# Altium schematic symbol library Levent_lib_commons.SchLib: 72 symbols
Pins are listed as number, name and electrical type; pins without a type are passive.

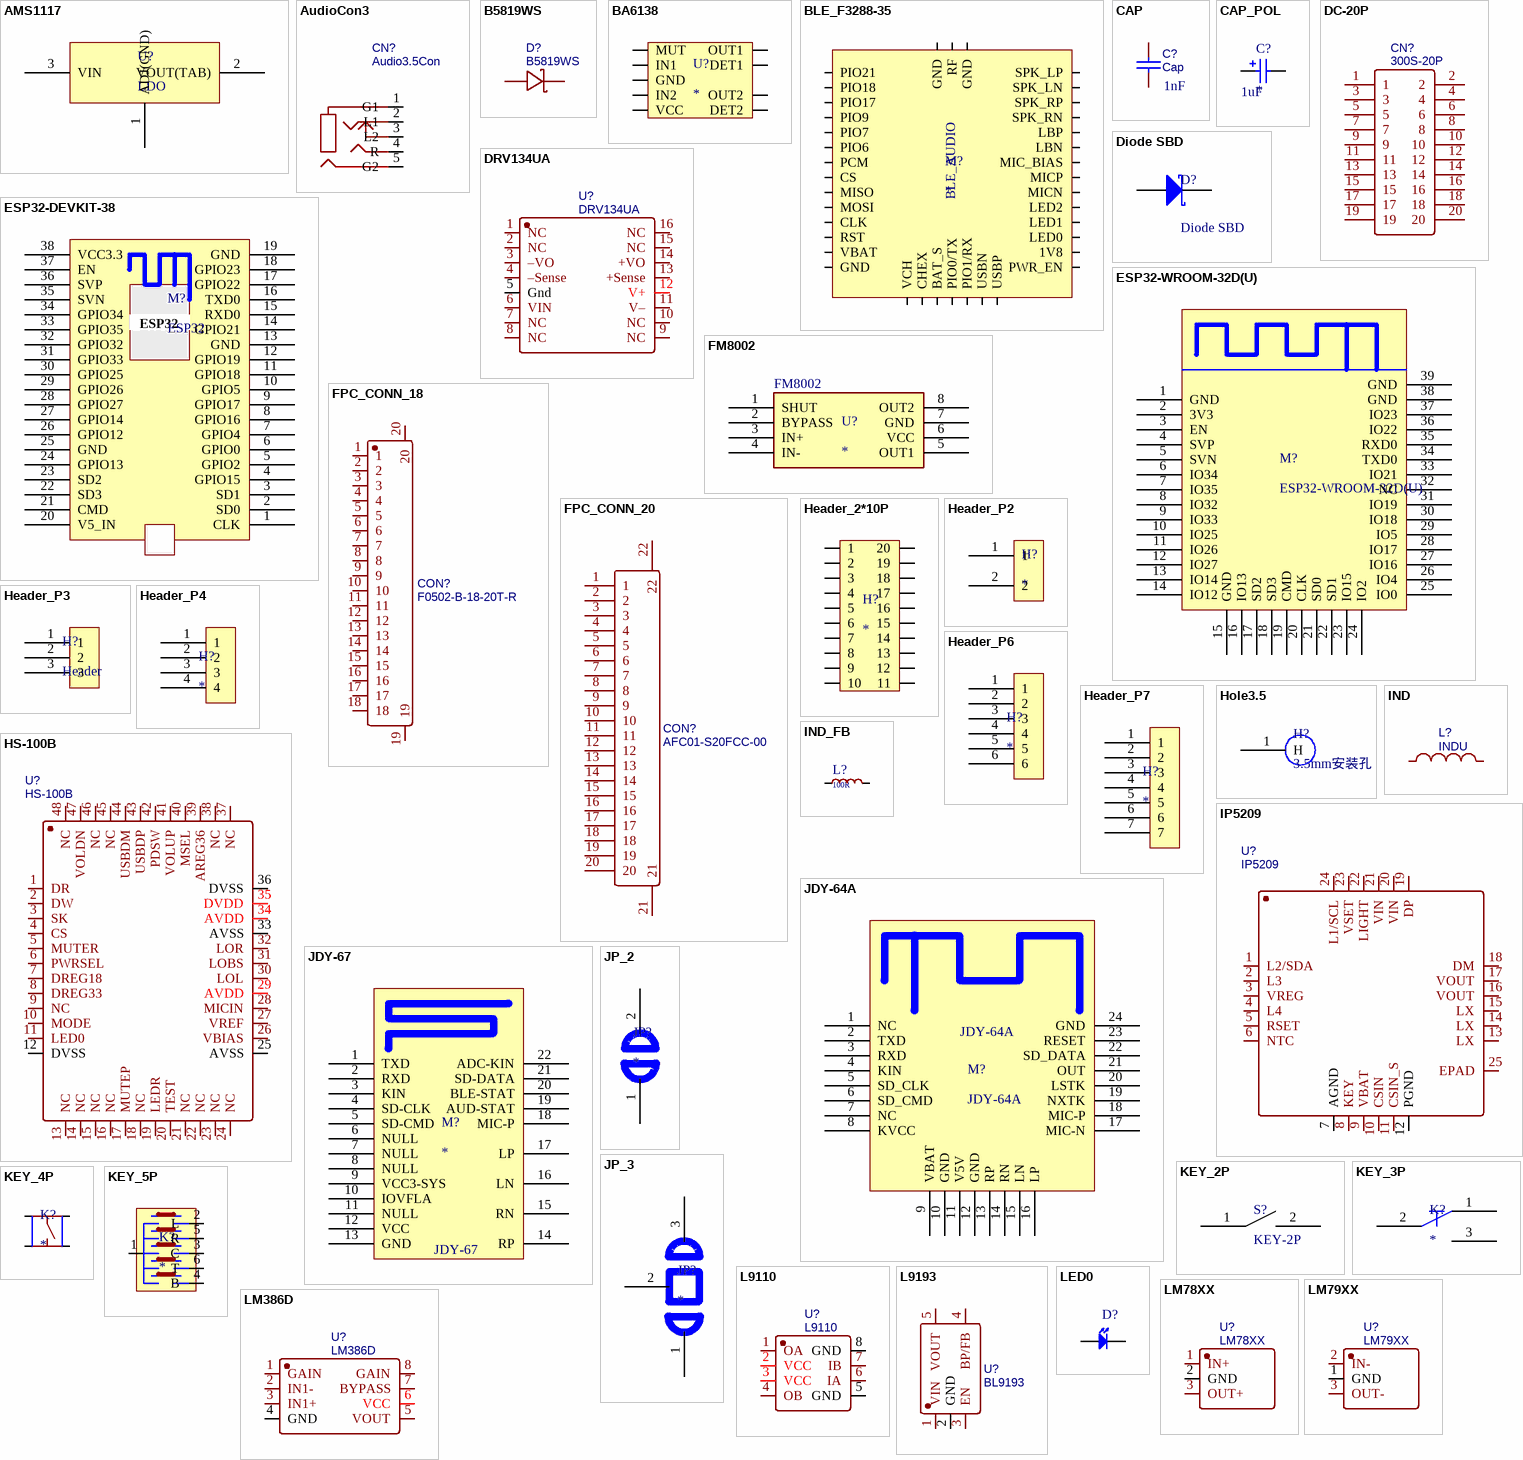
[diagram p0: symbols AMS1117 to LM386D]

## AMS1117
designator U?, comment LDO
footprint SOT-89
pins: 1 ADJ(GND), 2 VOUT(TAB), 3 VIN

## AudioCon3
designator CN?, comment Audio3.5Con
3.5mm 3Pin 音频接口; BOM_Manufacturer: G-Switch(品赞); BOM_Manufacturer Part: PJ-393; Contributor: LCSC; BOM_Supplier: LCSC; BOM_Supplier Part: C2837065; BOM_JLCPCB Part Class: Extended Part; spicePre: C; spiceSymbolName: PJ-393_C2837065
footprint Audio3.5_3Pin (3.5mm3Pin音频接口)
pins: 1 G1, 2 L1, 3 L2, 4 R, 5 G2

## B5819WS
designator D?
SBD; BOM_Manufacturer: Slkor(SLKORMICRO Elec.); Contributor: LCSC; BOM_Supplier: LCSC; BOM_Supplier Part: C488405; BOM_Manufacturer Part: B5819WS; spicePre: D; spiceSymbolName: B5819WS_C488405
footprint SOD-323
pins: 1 K, 2 A

## BA6138
designator U?
对数放大器
pins: 1 MUT, 2 OUT1, 3 DET1, 4 IN1, 5 GND, 6 IN2, 7 DET2, 8 OUT2, 9 VCC

## BLE_F3288-35
designator M?
蓝牙音频
pins: 1 PIO21, 2 PIO18, 3 PIO17, 4 PIO9, 5 PIO7, 6 PIO6, 7 PCM, 8 CS, 9 MISO, 10 MOSI, 11 CLK, 12 RST, 13 VBAT, 14 GND, 15 VCH, 16 CHEX, 17 BAT_S, 18 PIO0/TX, 19 PIO1/RX, 20 USBN, 21 USBP, 22 PWR_EN, 23 1V8, 24 LED0, 25 LED1, 26 LED2, 27 MICN, 28 MICP, 29 MIC_BIAS, 30 LBN, 31 LBP, 32 SPK_RN, 33 SPK_RP, 34 SPK_LN, 35 SPK_LP, 36 GND, 37 RF, 38 GND
text: BLE_AUDIO

## CAP
designator C?, comment Cap  value 1nF
BOM_Manufacturer: Huaxin S&T; BOM_Manufacturer Part: 0603B103K101CT; nameAlias: Capacitance; Contributor: LCSC; BOM_Supplier: LCSC; BOM_Supplier Part: C302008; spicePre: C; spiceSymbolName: 0603B103K101CT
footprint C0603
pins: 1, 2

## CAP_POL
designator C?  value 1uF
极性电容
footprint CAP_SMD_10mm (SMD电容,10mm)
pins: 1, 2

## DC-20P
designator CN?, comment 300S-20P
DC牛角座，20P; BOM_Manufacturer: Shenzhen Cankemeng; Contributor: LCSC; BOM_Supplier: LCSC; BOM_Supplier Part: C132442; BOM_Manufacturer Part: -; BOM_JLCPCB Part Class: Extended Part; spicePre: C; spiceSymbolName: 300S-20P
footprint CONN-TH_300S-20P
pins: 1, 2, 3, 4, 5, 6, 7, 8, 9, 10, 11, 12, 13, 14, 15, 16, 17, 18, 19, 20

## Diode SBD
designator D?
Schottky Rectifier; Note: Terminal 2 is the TAB and is electrically connected to the cathode; Published: 8-Jun-2000; LatestRevisionDate: 17-Jul-2002; LatestRevisionNote: Re-released for DXP Platform.; DatasheetVersion: PD-2.057B; PackageVersion: Feb-1998; PackageReference: TO-220AC; Publisher: Altium Limited; PackageDescription: TO, Thru-Hole, Vertical, Heatsink Mounted; 3 In-Line Leads (1 Absent); Pitch 2.54 mm; ComponentLink1Description: Manufacturer Link; ComponentLink1URL: http://www.irf.com/; ComponentLink2Description: Datasheet; ComponentLink2URL: http://www.irf.com/product-info/datasheets/data/10tq.pdf
simulation model 10TQ035 (DIODE)
footprint SMA_L4.3 (SMA_DIode)
pins: 1 K, 2 A

## DRV134UA
designator U?
音频差分放大器; BOM_Manufacturer: TI(德州仪器); Contributor: LCSC; BOM_Supplier: LCSC; BOM_Supplier Part: C1519988; BOM_Manufacturer Part: DRV134UA; BOM_JLCPCB Part Class: Extended Part; spicePre: U; spiceSymbolName: DRV134UA
footprint SOIC-16_L10.3-W7.5-P1.27-LS10.3-BL
pins: 1 NC, 2 NC, 3 –VO, 4 –Sense, 5 Gnd, 6 VIN, 7 NC, 8 NC, 9 NC, 10 NC, 11 V–, 12 V+, 13 +Sense, 14 +VO, 15 NC, 16 NC

## ESP32-DEVKIT-38
designator M?, comment ESP32
ESP32开发板，38引脚
pins: 1 CLK, 2 SD0, 3 SD1, 4 GPIO15, 5 GPIO2, 6 GPIO0, 7 GPIO4, 8 GPIO16, 9 GPIO17, 10 GPIO5, 11 GPIO18, 12 GPIO19, 13 GND, 14 GPIO21, 15 RXD0, 16 TXD0, 17 GPIO22, 18 GPIO23, 19 GND, 20 V5_IN, 21 CMD, 22 SD3, 23 SD2, 24 GPIO13, 25 GND, 26 GPIO12, 27 GPIO14, 28 GPIO27, 29 GPIO26, 30 GPIO25, 31 GPIO33, 32 GPIO32, 33 GPIO35, 34 GPIO34, 35 SVN, 36 SVP, 37 EN, 38 VCC3.3

## ESP32-WROOM-32D(U)
designator M?
footprint ESP32-WROOM-32D
pins: 1 GND, 2 3V3, 3 EN, 4 SVP, 5 SVN, 6 IO34, 7 IO35, 8 IO32, 9 IO33, 10 IO25, 11 IO26, 12 IO27, 13 IO14, 14 IO12, 15 GND, 16 IO13, 17 SD2, 18 SD3, 19 CMD, 20 CLK, 21 SD0, 22 SD1, 23 IO15, 24 IO2, 25 IO0, 26 IO4, 27 IO16, 28 IO17, 29 IO5, 30 IO18, 31 IO19, 32 NC, 33 IO21, 34 TXD0, 35 RXD0, 36 IO22, 37 IO23, 38 GND, 39 GND

## FM8002
designator U?
音频放大器
footprint SOP-8-PAD
pins: 1 SHUT, 2 BYPASS, 3 IN+, 4 IN-, 5 OUT1, 6 VCC, 7 GND, 8 OUT2

## FPC_CONN_18
designator CON?, comment F0502-B-18-20T-R
FPC连接器18Pin; BOM_Manufacturer: XFCN; Contributor: LCSC; BOM_Supplier: LCSC; BOM_Supplier Part: C512918; BOM_Manufacturer Part: F0502-B-18-20T-R; BOM_JLCPCB Part Class: Extended Part; spicePre: F; spiceSymbolName: F0502-B-18-20T-R
footprint FPC-SMD_18P-0.5 (0.5mmFPC连接器)
pins: 1, 2, 3, 4, 5, 6, 7, 8, 9, 10, 11, 12, 13, 14, 15, 16, 17, 18, 19, 20

## FPC_CONN_20
designator CON?, comment AFC01-S20FCC-00
FPC连接器20Pin; BOM_Manufacturer: JUSHUO; Contributor: LCSC; BOM_Supplier: LCSC; BOM_Supplier Part: C262274; BOM_Manufacturer Part: AFC01-S20FCC-00; BOM_JLCPCB Part Class: Extended Part; spicePre: F; spiceSymbolName: AFC01-S20FCC-00
footprint FPC-SMD_20P_0.5 (FPC连接器)
pins: 1, 2, 3, 4, 5, 6, 7, 8, 9, 10, 11, 12, 13, 14, 15, 16, 17, 18, 19, 20, 21, 22

## Header_2*10P
designator H?
2*10P连接器
pins: 1, 2, 3, 4, 5, 6, 7, 8, 9, 10, 11, 12, 13, 14, 15, 16, 17, 18, 19, 20

## Header_P2
designator H?
2Pin排针
footprint H_1.27_P2
footprint H_5.08_P2
pins: 1, 2

## Header_P3
designator H?, comment Header
3Pin接口
footprint H_2.54_P3 (3Pin Header)
pins: 1, 2, 3

## Header_P4
designator H?
4Pin排针
footprint H_1.27_P4
pins: 1, 2, 3, 4

## Header_P6
designator H?
6Pin排针
footprint H_1.27_P6
pins: 1, 2, 3, 4, 5, 6

## Header_P7
designator H?
7Pin排针
pins: 1, 2, 3, 4, 5, 6, 7

## Hole3.5
designator H?, comment 3.5mm安装孔
安装孔
pins: 1 H

## HS-100B
designator U?
HS-100B USB Audio; BOM_Manufacturer: Cmedia; Contributor: LCSC; BOM_Supplier: LCSC; BOM_Supplier Part: C371351; BOM_Manufacturer Part: HS-100B; BOM_JLCPCB Part Class: Extended Part; spicePre: U; spiceSymbolName: HS-100B
footprint LQFP-48_L7.0-W7.0-P0.50-LS9.0-BL
pins: 1 DR, 2 DW, 3 SK, 4 CS, 5 MUTER, 6 PWRSEL, 7 DREG18, 8 DREG33, 9 NC, 10 MODE, 11 LED0, 12 DVSS, 13 NC, 14 NC, 15 NC, 16 NC, 17 MUTEP, 18 NC, 19 LEDR, 20 TEST, 21 NC, 22 NC, 23 NC, 24 NC, 25 AVSS, 26 VBIAS, 27 VREF, 28 MICIN, 29 AVDD, 30 LOL, 31 LOBS, 32 LOR, 33 AVSS, 34 AVDD, 35 DVDD, 36 DVSS, 37 NC, 38 NC, 39 AREG36, 40 MSEL, 41 VOLUP, 42 PDSW, 43 USBDP, 44 USBDM, 45 NC, 46 NC, 47 VOLDN, 48 NC

## IND
designator L?, comment INDU
电感; BOM_Manufacturer: Sunltech Tech; BOM_Manufacturer Part: SLO0630H150MTT; nameAlias: Inductance; Contributor: LCSC; BOM_Supplier: LCSC; BOM_Supplier Part: C182182; BOM_JLCPCB Part Class: Extended Part; spicePre: L; spiceSymbolName: SLO0630H150MTT; Value: *
footprint SMD_L7.1
pins: 1, 2

## IND_FB
designator L?, comment value 100R  (hidden comment: 电感磁珠)
footprint L0603 (磁珠0603)
pins: 1, 2

## IP5209
designator U?
USB充电宝; BOM_Manufacturer: INJOINIC; Contributor: LCSC; BOM_Supplier: LCSC; BOM_Supplier Part: C181695; BOM_Manufacturer Part: IP5209; BOM_JLCPCB Part Class: Extended Part; spicePre: U; spiceSymbolName: IP5209
footprint QFN-24
pins: 1 L2/SDA, 2 L3, 3 VREG, 4 L4, 5 RSET, 6 NTC, 7 AGND, 8 KEY, 9 VBAT, 10 CSIN, 11 CSIN_S, 12 PGND, 13 LX, 14 LX, 15 LX, 16 VOUT, 17 VOUT, 18 DM, 19 DP, 20 VIN, 21 VIN, 22 LIGHT, 23 VSET, 24 L1/SCL, 25 EPAD

## JDY-64A
designator M?
蓝牙音频
footprint JDY-64A (蓝牙音频)
pins: 1 NC, 2 TXD, 3 RXD, 4 KIN, 5 SD_CLK, 6 SD_CMD, 7 NC, 8 KVCC, 9 VBAT, 10 GND, 11 V5V, 12 GND, 13 RP, 14 RN, 15 LN, 16 LP, 17 MIC-N, 18 MIC-P, 19 NXTK, 20 LSTK, 21 OUT, 22 SD_DATA, 23 RESET, 24 GND

## JDY-67
designator M?
JDY-67
footprint JDY-67 (蓝牙音频模组)
pins: 1 TXD, 2 RXD, 3 KIN, 4 SD-CLK, 5 SD-CMD, 6 NULL, 7 NULL, 8 NULL, 9 VCC3-SYS, 10 IOVFLA, 11 NULL, 12 VCC, 13 GND, 14 RP, 15 RN, 16 LN, 17 LP, 18 MIC-P, 19 AUD-STAT, 20 BLE-STAT, 21 SD-DATA, 22 ADC-KIN

## JP_2
designator JP?
2Pin跳线焊盘
footprint JP_2Pin (2Pin跳线焊盘)
pins: 1, 2

## JP_3
designator JP?
3Pin跳线焊盘
footprint JP_3PIN (3Pin跳线焊盘)
pins: 1, 2, 3

## KEY_2P
designator S?, comment KEY-2P
KEY-2Pp
footprint KEY_SOT_P2
pins: 1, 2

## KEY_3P
designator K?
3Pin按键
pins: 1, 2, 3

## KEY_4P
designator K?
4Pin按键
pins: 1, 2, 3, 4

## KEY_5P
designator K?
五向开关
footprint KEY_5 (五向开关)
pins: 1 G, 2 L, 3 C, 4 B, 5 R, 6 T

## L9110
designator U?
L9110_HBridge; BOM_Manufacturer: Mixic; BOM_Manufacturer Part: L9110S; Contributor: LCSC; BOM_Supplier: LCSC; BOM_Supplier Part: C513306; BOM_JLCPCB Part Class: Extended Part; spicePre: U; spiceSymbolName: L9110S_C513306
footprint DIP-8
pins: 1 OA, 2 VCC, 3 VCC, 4 OB, 5 GND, 6 IA, 7 IB, 8 GND

## L9193
designator U?, comment BL9193
LDO9193; BOM_Manufacturer: Shanghai Belling; BOM_Manufacturer Part: BL9193-ADBAPRN; Contributor: LCSC; BOM_Paste Type: expand; BOM_Supplier: LCSC; BOM_Supplier Part: C216210; spicePre: U; spiceSymbolName: BL9193-ADBAPRN
footprint SOT-23-5
pins: 1 VIN, 2 GND, 3 EN, 4 BP/FB, 5 VOUT

## LED0
designator D?, comment LED  (value not drawn)
Published: 8-Jun-2000; LatestRevisionDate: 08-Jul-2005; LatestRevisionNote: Mech Layer 1 removed.; PackageReference: LED-0; Publisher: Altium Limited; PackageDescription: LED; 2 Leads
simulation model LED0 (Diode)
footprint LED0603
pins: 1 K, 2 A

## LM78XX
designator U?
三端稳压(正电压); BOM_Manufacturer: HGSEMI(华冠); BOM_Manufacturer Part: LM7812T; Contributor: LCSC; BOM_Supplier: LCSC; BOM_Supplier Part: C2902509; BOM_JLCPCB Part Class: Extended Part; spicePre: U; spiceSymbolName: LM7812T
footprint TO-220-3_2.54
pins: 1 IN+, 2 GND, 3 OUT+

## LM79XX
designator U?
三端稳压(负电压); BOM_Manufacturer: HGSEMI(华冠); BOM_Manufacturer Part: LM7812T; Contributor: LCSC; BOM_Supplier: LCSC; BOM_Supplier Part: C2902509; BOM_JLCPCB Part Class: Extended Part; spicePre: U; spiceSymbolName: LM7812T
footprint TO-220-3_2.54
pins: 1 GND, 2 IN-, 3 OUT-

## LM386D
designator U?
LM386; BOM_Manufacturer: HTC Korea TAEJIN Tech; Contributor: LCSC; BOM_Supplier: LCSC; BOM_Supplier Part: C510560; BOM_Manufacturer Part: LM386D; BOM_JLCPCB Part Class: Extended Part; spicePre: U; spiceSymbolName: LM386D
footprint SOP-8
pins: 1 GAIN, 2 IN1-, 3 IN1+, 4 GND, 5 VOUT, 6 VCC, 7 BYPASS, 8 GAIN

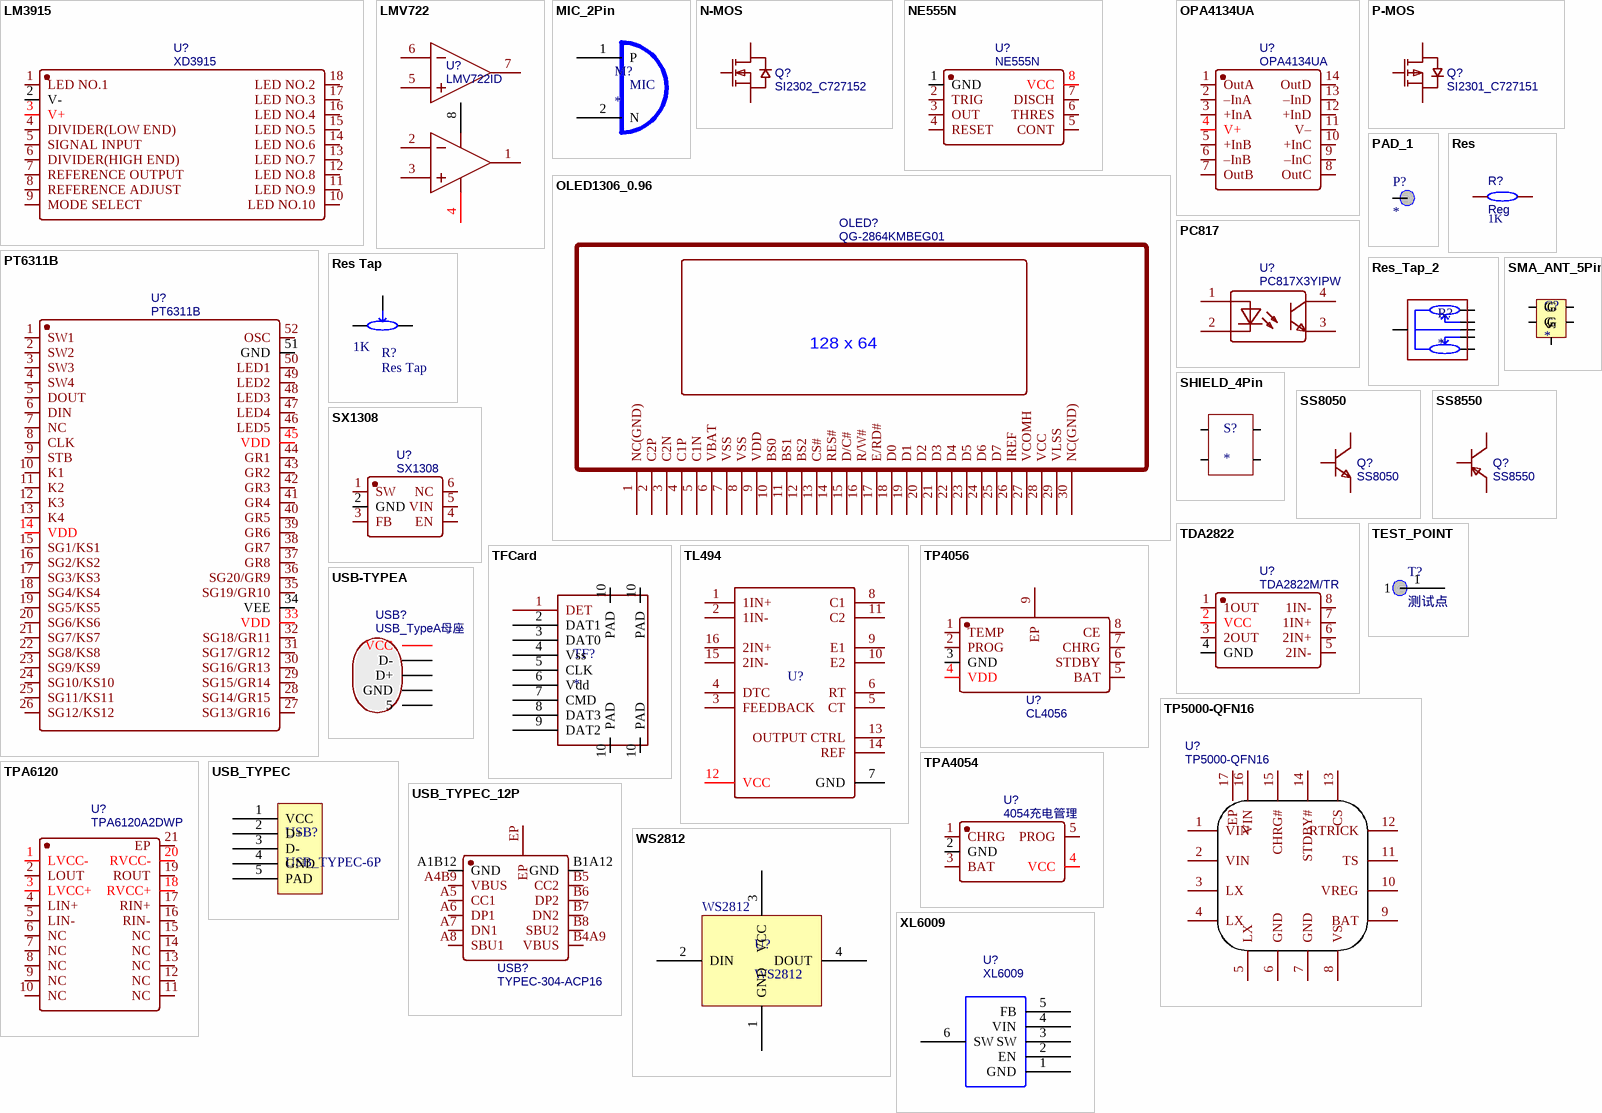
[diagram p1: symbols LM3915 to XL6009]

## LM3915
designator U?, comment XD3915
电平指示; BOM_Manufacturer: XINLUDA(信路达); Contributor: LCSC; BOM_Supplier: LCSC; BOM_Supplier Part: C609778; BOM_Manufacturer Part: XD3915; BOM_JLCPCB Part Class: Extended Part; Frequency: -; spicePre: U; spiceSymbolName: XD3915
footprint DIP-18
pins: 1 LED NO.1, 2 V-, 3 V+, 4 DIVIDER(LOW END), 5 SIGNAL INPUT, 6 DIVIDER(HIGH END), 7 REFERENCE OUTPUT, 8 REFERENCE ADJUST, 9 MODE SELECT, 10 LED NO.10, 11 LED NO.9, 12 LED NO.8, 13 LED NO.7, 14 LED NO.6, 15 LED NO.5, 16 LED NO.4, 17 LED NO.3, 18 LED NO.2

## LMV722
designator U?, comment LMV722ID
双路音频放大器; BOM_Manufacturer: TI(德州仪器); subpart_no: 2; BOM_Supplier: LCSC; BOM_Supplier Part: C1346906; BOM_Manufacturer Part: LMV722ID; BOM_JLCPCB Part Class: Extended Part; spicePre: U; spiceSymbolName: LMV722ID
pins: 1 OUT1, 2 IN1-, 3 IN1+, 4 VCC-, 5 IN2+, 6 IN2-, 7 OUT2, 8 VCC+

## MIC_2Pin
designator M?
麦克风
pins: 1 P, 2 N
text: MIC

## N-MOS
designator Q?, comment SI2302_C727152
N-MOS; BOM_Manufacturer: TWGMC; BOM_Manufacturer Part: SI2302; Contributor: LCSC; BOM_Supplier: LCSC; BOM_Supplier Part: C727152; spicePre: Q; spiceSymbolName: SI2302_C727152
footprint SOT-23-3
pins: 1 G, 2 S, 3 D

## NE555N
designator U?
NE555_IC; BOM_Manufacturer: HGSEMI; Contributor: LCSC; BOM_Supplier: LCSC; BOM_Supplier Part: C398063; BOM_Manufacturer Part: NE555N; BOM_JLCPCB Part Class: Extended Part; spicePre: U; spiceSymbolName: NE555N
footprint DIP-8
pins: 1 GND, 2 TRIG, 3 OUT, 4 RESET, 5 CONT, 6 THRES, 7 DISCH, 8 VCC

## OLED1306_0.96
designator OLED?, comment QG-2864KMBEG01
SSD1306-30pin; BOM_Manufacturer: Allvision; BOM_Supplier: LCSC; BOM_Manufacturer Part: QG-2864KMBEG01; BOM_Supplier Part: C91756; spicePre: O; spiceSymbolName: QG-2864KMBEG01
footprint OLED_0.96 (0.96寸OLED)
pins: 1 NC(GND), 2 C2P, 3 C2N, 4 C1P, 5 C1N, 6 VBAT, 7 VSS, 8 VSS, 9 VDD, 10 BS0, 11 BS1, 12 BS2, 13 CS#, 14 RES#, 15 D/C#, 16 R/W#, 17 E/RD#, 18 D0, 19 D1, 20 D2, 21 D3, 22 D4, 23 D5, 24 D6, 25 D7, 26 IREF, 27 VCOMH, 28 VCC, 29 VLSS, 30 NC(GND)
text: 128 x 64

## OPA4134UA
designator U?
耳放; BOM_Manufacturer: TI(德州仪器); Contributor: LCSC; BOM_Supplier: LCSC; BOM_Supplier Part: C2832240; BOM_Manufacturer Part: OPA4134UA; BOM_JLCPCB Part Class: Extended Part; spicePre: U; spiceSymbolName: OPA4134UA
footprint SOIC-14_L8.7-W3.9-P1.27-LS6.0-BL
pins: 1 OutA, 2 –InA, 3 +InA, 4 V+, 5 +InB, 6 –InB, 7 OutB, 8 OutC, 9 –InC, 10 +InC, 11 V–, 12 +InD, 13 –InD, 14 OutD

## P-MOS
designator Q?, comment SI2301_C727151
P-MOS; BOM_Manufacturer: TWGMC; BOM_Manufacturer Part: SI2301; Contributor: LCSC; BOM_Supplier: LCSC; BOM_Supplier Part: C727151; spicePre: Q; spiceSymbolName: SI2301_C727151
footprint SOT-23-3
pins: 1 G, 2 S, 3 D

## PAD_1
designator P?
1脚焊盘
pins: 1

## PC817
designator U?, comment PC817X3YIPW
PC817光耦; BOM_Manufacturer: SHARP(夏普); Contributor: LCSC; BOM_Supplier: LCSC; BOM_Supplier Part: C2833077; BOM_Manufacturer Part: PC817X3YIPW; spicePre: U; spiceSymbolName: PC817X3YIPW
footprint SOP-4_2.54
pins: 1, 2, 3, 4

## PT6311B
designator U?
VFD驱动IC; BOM_Manufacturer: PTC; BOM_Supplier: LCSC; BOM_Manufacturer Part: PT6311B; BOM_Supplier Part: C110224; BOM_JLCPCB Part Class: Extended Part; spicePre: U; spiceSymbolName: PT6311B
footprint LQFP-52 (LQFP 52Pin)
pins: 1 SW1, 2 SW2, 3 SW3, 4 SW4, 5 DOUT, 6 DIN, 7 NC, 8 CLK, 9 STB, 10 K1, 11 K2, 12 K3, 13 K4, 14 VDD, 15 SG1/KS1, 16 SG2/KS2, 17 SG3/KS3, 18 SG4/KS4, 19 SG5/KS5, 20 SG6/KS6, 21 SG7/KS7, 22 SG8/KS8, 23 SG9/KS9, 24 SG10/KS10, 25 SG11/KS11, 26 SG12/KS12, 27 SG13/GR16, 28 SG14/GR15, 29 SG15/GR14, 30 SG16/GR13, 31 SG17/GR12, 32 SG18/GR11, 33 VDD, 34 VEE, 35 SG19/GR10, 36 SG20/GR9, 37 GR8, 38 GR7, 39 GR6, 40 GR5, 41 GR4, 42 GR3, 43 GR2, 44 GR1, 45 VDD, 46 LED5, 47 LED4, 48 LED3, 49 LED2, 50 LED1, 51 GND, 52 OSC

## Res
designator R?, comment Reg  value 1K
电阻; BOM_Manufacturer: Viking Tech; BOM_Manufacturer Part: AR03BTCX1002A; nameAlias: Resistance (Ohms); Contributor: LCSC; BOM_Supplier: LCSC; BOM_Supplier Part: C465721; spicePre: R; spiceSymbolName: AR03BTCX1002A
footprint R0603
pins: 1, 2

## Res Tap
designator R?  value 1K
可调电阻; Sim Note: Enter the Resistance value and the set point into parameter fields.; Set Position: 0.5; Published: 24-Mar-1999; LatestRevisionDate: 17-Jul-2002; LatestRevisionNote: Re-released for DXP Platform.; PackageReference: VR3; Publisher: Altium Limited; PackageDescription: Variable Resistor, Thru-Hole; 3 Leads
simulation model POT (Potentiometer)
footprint Res_Tap_3296 (精密电位器)
pins: 1 A, 2 B, 3 TAP

## Res_Tap_2
designator R?
双联电位器
footprint RES_TAP_5Pin (双联电位器)
pins: 1 G, 2 CH1A, 3 CH2A, 4 CH2B, 5 CH1B, 6 PAD

## SHIELD_4Pin
designator S?
2Pin屏蔽罩
pins: 1, 2, 3, 4

## SMA_ANT_5Pin
designator C?
SMA射频天线座
pins: 1 G, 2 G, 3 G, 4 G, 5 S

## SS8050
designator Q?
NPN; BOM_Manufacturer: AnBon; Contributor: LCSC; BOM_Paste Type: recommend; BOM_Supplier: LCSC; BOM_Supplier Part: C541705; BOM_Manufacturer Part: SS8050; spicePre: Q; spiceSymbolName: SS8050_C541705
footprint SOT-23-3
pins: 1 B, 2 E, 3 C

## SS8550
designator Q?
PNP; BOM_Manufacturer: AnBon; Contributor: LCSC; BOM_Supplier: LCSC; BOM_Supplier Part: C541706; BOM_Manufacturer Part: SS8550; spicePre: Q; spiceSymbolName: SS8550_C541706
footprint SOT-23-3
pins: 1 B, 2 E, 3 C

## SX1308
designator U?
升压PWM; BOM_Manufacturer: SX; sourceId: g4Yg9rJ1j; timeStamp: 1472247539; BOM_Supplier: LCSC; BOM_Manufacturer Part: SX1308; BOM_Supplier Part: C78162; BOM_JLCPCB Part Class: Extended Part; spicePre: U; spiceSymbolName: SX1308
footprint SOT-23-6
pins: 1 SW, 2 GND, 3 FB, 4 EN, 5 VIN, 6 NC

## TDA2822
designator U?, comment TDA2822M/TR
功放IC; BOM_Manufacturer: HGSEMI; Contributor: LCSC; BOM_Supplier: LCSC; BOM_Supplier Part: C725341; BOM_Manufacturer Part: TDA2822M/TR; BOM_JLCPCB Part Class: Extended Part; spicePre: U; spiceSymbolName: TDA2822M/TR
footprint SOP-8
pins: 1 1OUT, 2 VCC, 3 2OUT, 4 GND, 5 2IN-, 6 2IN+, 7 1IN+, 8 1IN-

## TEST_POINT
designator T?, comment 测试点
footprint TEST_POINT (测试点)
pins: 1

## TFCard
designator TF?
TF卡座
pins: 1 DET, 2 DAT1, 3 DAT0, 4 Vss, 5 CLK, 6 Vdd, 7 CMD, 8 DAT3, 9 DAT2, 10 PAD, 10 PAD, 10 PAD, 10 PAD

## TL494
designator U?
TL494 PWM-IC
footprint SOIC-16 (SOIC_16)
pins: 1 1IN+, 2 1IN-, 3 FEEDBACK, 4 DTC, 5 CT, 6 RT, 7 GND, 8 C1, 9 E1, 10 E2, 11 C2, 12 VCC, 13 OUTPUT CTRL, 14 REF, 15 2IN-, 16 2IN+

## TP4056
designator U?, comment CL4056
充电IC; BOM_Manufacturer: ChipLink Tech; Contributor: LCSC; BOM_Supplier: LCSC; BOM_Supplier Part: C181916; BOM_Manufacturer Part: CL4056; BOM_JLCPCB Part Class: Extended Part; spicePre: U; spiceSymbolName: CL4056
footprint SOP-8-PAD
pins: 1 TEMP, 2 PROG, 3 GND, 4 VDD, 5 BAT, 6 STDBY, 7 CHRG, 8 CE, 9 EP

## TP5000-QFN16
designator U?
BOM_Manufacturer: TOPPOWER; BOM_Supplier: LCSC; BOM_Manufacturer Part: TP5000-QFN16; BOM_Supplier Part: C51699; BOM_JLCPCB Part Class: Extended Part; spicePre: U; spiceSymbolName: TP5000-QFN16
pins: 1 VIN, 2 VIN, 3 LX, 4 LX, 5 LX, 6 GND, 7 GND, 8 VS, 9 BAT, 10 VREG, 11 TS, 12 RTRICK, 13 CS, 14 STDBY#, 15 CHRG#, 16 VIN, 17 EP

## TPA4054
designator U?, comment 4054充电管理
BOM_Manufacturer: Shenzhen Fuman Elec; BOM_Manufacturer Part: LTH7R.; Contributor: LCSC; BOM_Supplier: LCSC; BOM_Supplier Part: C841234; spicePre: U; spiceSymbolName: LTH7R.
footprint SOT-23-5_L3.0-W1.7-P0.95-LS2.8-BL
footprint SOT-23-5
pins: 1 CHRG, 2 GND, 3 BAT, 4 VCC, 5 PROG

## TPA6120
designator U?, comment TPA6120A2DWP
耳放; BOM_Manufacturer: TI(德州仪器); Contributor: LCSC; BOM_Supplier: LCSC; BOM_Supplier Part: C2871054; BOM_Manufacturer Part: TPA6120A2DWP; link: https://atta.szlcsc.comnull; spicePre: U; spiceSymbolName: TPA6120A2DWP
footprint HSOP-20_L12.8-W7.5-P1.27-LS10.3-BL-EP
pins: 1 LVCC-, 2 LOUT, 3 LVCC+, 4 LIN+, 5 LIN-, 6 NC, 7 NC, 8 NC, 9 NC, 10 NC, 11 NC, 12 NC, 13 NC, 14 NC, 15 NC, 16 RIN-, 17 RIN+, 18 RVCC+, 19 ROUT, 20 RVCC-, 21 EP

## USB-TYPEA
designator USB?, comment USB_TypeA母座
BOM_Manufacturer: ValuePro; BOM_Manufacturer Part: YJ-USB-AF-SMT-01; BOM_Supplier: LCSC; BOM_Supplier Part: C8328; BOM_JLCPCB Part Class: Extended Part; spicePre: U; spiceSymbolName: YJ-USB-AF-SMT-01
pins: 1 VCC, 2 D-, 3 D+, 4 GND, 5

## USB_TYPEC
designator USB?, comment USB_TYPEC-6P
footprint USB_TYPEC (USB_TYPEC-6P)
pins: 1 VCC, 2 D+, 3 D-, 4 GND, 5 PAD

## USB_TYPEC_12P
designator USB?, comment TYPEC-304-ACP16
全引脚USB TYPEC母座; BOM_Manufacturer: XUNPU(讯普); Contributor: LCSC; BOM_Supplier: LCSC; BOM_Supplier Part: C2982555; BOM_Manufacturer Part: TYPEC-304-ACP16; BOM_JLCPCB Part Class: Extended Part; spicePre: U; spiceSymbolName: TYPEC-304-ACP16
pins: A1B12 GND, A4B9 VBUS, A5 CC1, A6 DP1, A7 DN1, A8 SBU1, B1A12 GND, B4A9 VBUS, B5 CC2, B6 DP2, B7 DN2, B8 SBU2, EP

## WS2812
designator U?
WS2812全色LED
footprint WS2812_5050 (WS2812 5050 LED)
pins: 1 GND, 2 DIN, 3 VCC, 4 DOUT

## XL6009
designator U?
BOM_Manufacturer: TI; BOM_Manufacturer Part: LM2577SX-ADJ/NOPB; BOM_Supplier: LCSC; BOM_Supplier Part: C17117; BOM_JLCPCB Part Class: Extended Part; spicePre: U; spiceSymbolName: LM2577SX-ADJ/NOPB
footprint TO-263-5
pins: 1 GND, 2 EN, 3 SW, 4 VIN, 5 FB, 6 SW